# Altium footprint library 14PIN_TEST.PcbLib: 1 footprints
Each footprint in its own frame and in the unit in brackets; x right, y up, seen from the top. Pads: shape width x height; smd on the part's side, far side on the other; paste and mask are expansions set on the pad; w line width, h text height; cw(c..) or ccw(c..) is an arc to the next point about the centre after c.
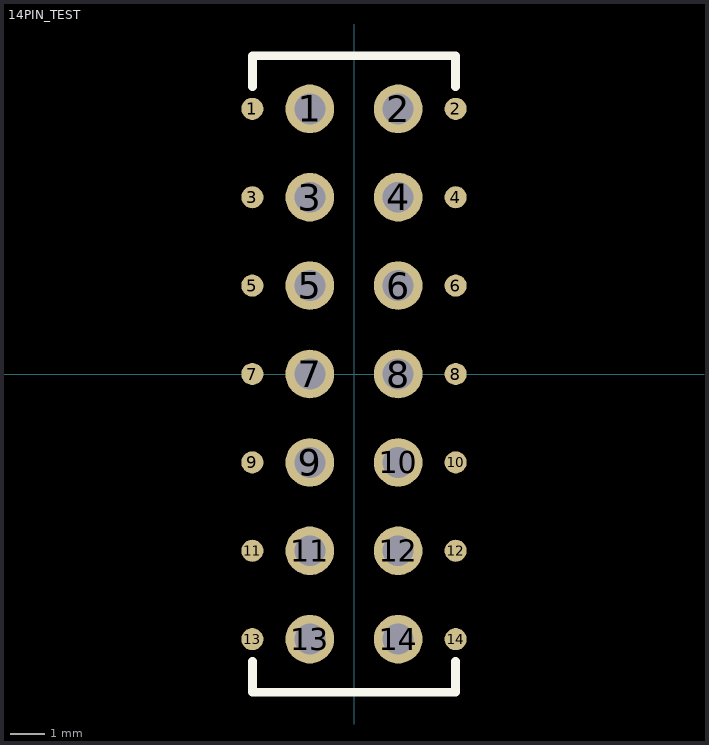
[diagram p0: the footprint, top view; thin cyan lines are the x and y axes]

## 14PIN_TEST [mil] "带测点连接器"
pads (28):
  round 25 smd: 1(-115,300) 2(115,300) 3(-115,200) 4(115,200) 5(-115,100) 6(115,100) 7(-115,0) 8(115,0) 9(-115,-100) 10(115,-100) 11(-115,-200) 12(115,-200) 13(-115,-300) 14(115,-300)
  round 55 hole 35: 1(-50,300) 2(50,300) 3(-50,200) 4(50,200) 5(-50,100) 6(50,100) 7(-50,0) 8(50,0) 9(-50,-100) 10(50,-100) 11(-50,-200) 12(50,-200) 13(-50,-300) 14(50,-300)
Top Overlay:
  lines w10: -115,-325 -115,-360 115,-360 115,-325 ; -115,325 -115,360 115,360 115,325